# Altium schematic symbol library IS-IG-BB.SchLib: 5 symbols
Pins are listed as number, name and electrical type; pins without a type are passive.

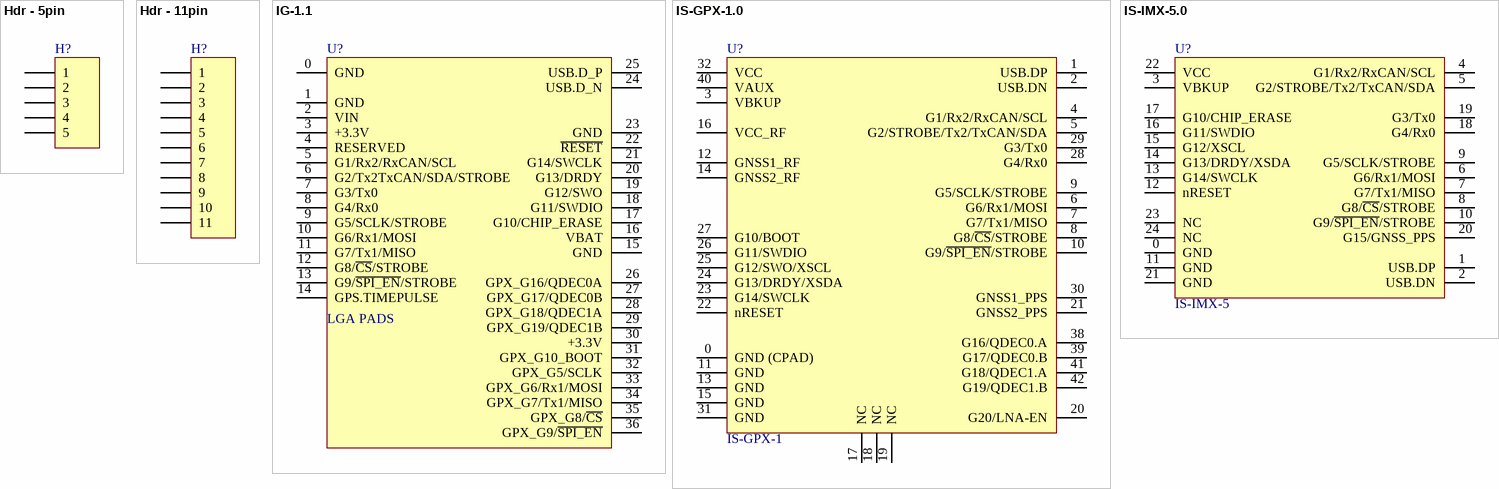
[diagram p0: symbols Hdr - 5pin to IS-IMX-5.0]

## Hdr - 5pin
designator H?
5 pin header
footprint Header-.1IN-1x5
pins: 1, 2, 3, 4, 5

## Hdr - 11pin
designator H?
11 pin header
footprint Header-.1IN-1x11
pins: 1, 2, 3, 4, 5, 6, 7, 8, 9, 10, 11

## IG-1.1
designator U?, comment LGA PADS
IMX multi-frequency RTK-GNSS Module
footprint IG-2.0_LGA (IMX multi-frequency RTK-GNSS Module)
pins: 0 GND, 1 GND, 2 VIN, 3 +3.3V, 4 RESERVED, 5 G1/Rx2/RxCAN/SCL, 6 G2/Tx2TxCAN/SDA/STROBE, 7 G3/Tx0, 8 G4/Rx0, 9 G5/SCLK/STROBE, 10 G6/Rx1/MOSI, 11 G7/Tx1/MISO, 12 G8/~{CS}/STROBE, 13 G9/~{SPI_EN}/STROBE, 14 GPS.TIMEPULSE, 15 GND, 16 VBAT, 17 G10/CHIP_ERASE, 18 G11/SWDIO, 19 G12/SWO, 20 G13/DRDY, 21 G14/SWCLK, 22 ~{RESET}, 23 GND, 24 USB.D_N, 25 USB.D_P, 26 GPX_G16/QDEC0A, 27 GPX_G17/QDEC0B, 28 GPX_G18/QDEC1A, 29 GPX_G19/QDEC1B, 30 +3.3V, 31 GPX_G10_BOOT, 32 GPX_G5/SCLK, 33 GPX_G6/Rx1/MOSI, 34 GPX_G7/Tx1/MISO, 35 GPX_G8/~{CS}, 36 GPX_G9/~{SPI_EN}

## IS-GPX-1.0
designator U?, comment Manufacturer Part Number: IS-GPX-1  (hidden comment: GPX)
Inertial Sense GPX; Manufacturer: Inertial Sense; Supplier 1: Inertial Sense; Supplier Part Number 1: IS-GPX-1
footprint IS-GPX-1.0 (Inerial Sense GPX r1.0, 42pins 1.27mm pitch)
pins: 0 GND (CPAD) (power), 1 USB.DP, 2 USB.DN, 3 VBKUP, 4 G1/Rx2/RxCAN/SCL, 5 G2/STROBE/Tx2/TxCAN/SDA, 6 G6/Rx1/MOSI, 7 G7/Tx1/MISO, 8 G8/~{CS}/STROBE, 9 G5/SCLK/STROBE, 10 G9/~{SPI_EN}/STROBE, 11 GND (power), 12 GNSS1_RF, 13 GND (power), 14 GNSS2_RF, 15 GND (power), 16 VCC_RF (power), 17 NC, 18 NC, 19 NC, 20 G20/LNA-EN, 21 GNSS2_PPS, 22 nRESET, 23 G14/SWCLK, 24 G13/DRDY/XSDA, 25 G12/SWO/XSCL, 26 G11/SWDIO, 27 G10/BOOT, 28 G4/Rx0, 29 G3/Tx0, 30 GNSS1_PPS, 31 GND (power), 32 VCC (power), 38 G16/QDEC0.A, 39 G17/QDEC0.B, 40 VAUX (power), 41 G18/QDEC1.A, 42 G19/QDEC1.B

## IS-IMX-5.0
designator U?, comment Manufacturer Part Number: IS-IMX-5  (hidden comment: IMX)
Inertial Sense IMX; Manufacturer: Inertial Sense; Supplier 1: Inertial Sense; Supplier Part Number 1: IS-IMX-5
footprint IS-IMX-5.0 (Inerial Sense IMX r5.0, 22pins 1.27mm pitch)
pins: 0 GND (power), 1 USB.DP, 2 USB.DN, 3 VBKUP, 4 G1/Rx2/RxCAN/SCL, 5 G2/STROBE/Tx2/TxCAN/SDA, 6 G6/Rx1/MOSI, 7 G7/Tx1/MISO, 8 G8/~{CS}/STROBE, 9 G5/SCLK/STROBE, 10 G9/~{SPI_EN}/STROBE, 11 GND (power), 12 nRESET, 13 G14/SWCLK, 14 G13/DRDY/XSDA, 15 G12/XSCL, 16 G11/SWDIO, 17 G10/CHIP_ERASE, 18 G4/Rx0, 19 G3/Tx0, 20 G15/GNSS_PPS, 21 GND (power), 22 VCC (power), 23 NC (power), 24 NC (power)